# Altium footprint library MISC.PcbLib: 8 footprints
Each footprint in its own frame and in the unit in brackets; x right, y up, seen from the top. Pads: shape width x height; smd on the part's side, far side on the other; paste and mask are expansions set on the pad; w line width, h text height; cw(c..) or ccw(c..) is an arc to the next point about the centre after c.
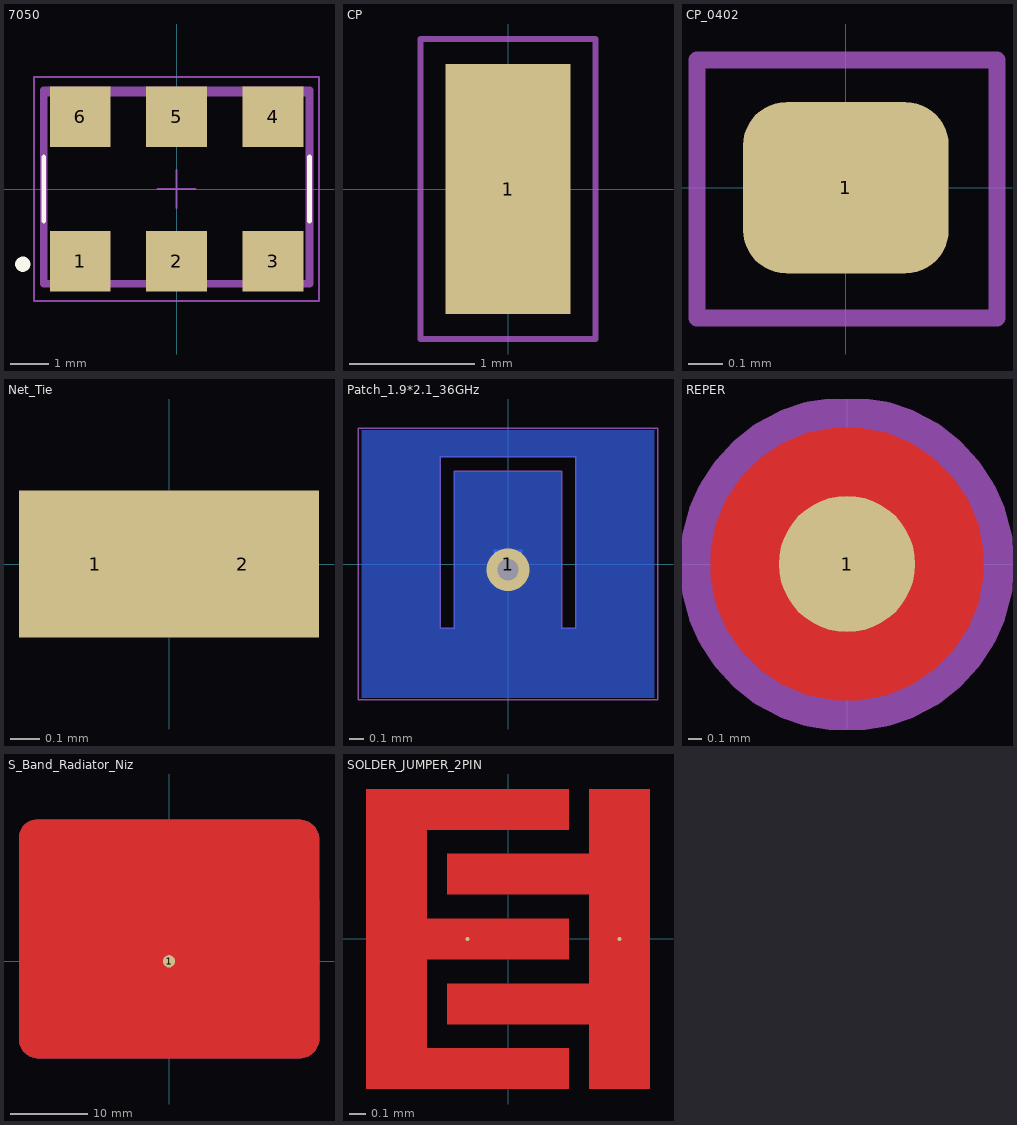
[diagram p0: the footprints below, top view; thin cyan lines are the x and y axes]

## 7050 [mm]
pads (6):
  rect 1.6x1.6 smd: 1(-2.54,-1.9) 2(0,-1.9) 3(2.54,-1.9) 4(2.54,1.9) 5(0,1.9) 6(-2.54,1.9)
Top Overlay:
  circle w0.2: c-4.05,-1.98 r0.1
  lines w0.127: -3.5,-0.84 -3.5,0.84 ; 3.5,-0.84 3.5,0.84
Top Assembly:
  circle w0.254: c-2.8,-2 r0.1
  lines w0.2: -3.5,-2.5 -3.5,2.6 3.5,2.6 3.5,-2.5 -3.5,-2.5
  text ".Designator" at -7.498,-0.5 h1.5
Top 3D Body (Mech13):
  lines w0.127: -3.5,-2.5 3.5,-2.5 3.5,2.5 -3.5,2.5 -3.5,-2.5
Top Courtyard:
  lines w0.05: -0.5,0 0,0 ; 0,-0.5 0,0 ; 0,0.5 0,0 ; 0.5,0 0,0 ; -3.75,-2.95 -3.75,2.95 3.75,2.95 3.75,-2.95 -3.75,-2.95
3D body "step_temp.STEP": height 1.7, standoff 0, extent -3.5,-2.5 3.5,2.5

## CP [mm]
pads (1):
  rect 1x2 smd: 1(0,0)
Top Courtyard:
  lines w0.05: -0.7,-1.2 0.7,-1.2 0.7,1.2 -0.7,1.2 -0.7,-1.2

## CP_0402 [mm]
pads (1):
  rrect50% 0.6x0.5 smd: 1(0,0)
Top Courtyard:
  lines w0.05: -0.435,-0.38 0.441,-0.38 0.441,0.373 -0.435,0.373 -0.435,-0.38

## Net_Tie [mm]
pads (2):
  rect 0.52x0.5 smd paste-2539.97 mask+0.102: 1(-0.25,0) 2(0.25,0)

## Patch_1.9*2.1_36GHz [mm]
height 46
pads (1):
  rect 0.2x0.2 smd far side: 1(0,0)
via 0,-0.04 diameter 0.3 hole 0.15
Bottom Layer:
  region: -1.025,-0.935 1.025,-0.935 1.025,0.935 0.475,0.935 0.475,-0.45 0.375,-0.45 0.375,0.65 -0.375,0.65 -0.375,-0.45 -0.475,-0.45 -0.475,0.75 0.475,0.75 0.475,0.935 -1.025,0.935
Bottom Assembly:
  lines w0.01: -1.05,-0.95 -1.05,0.95 1.05,0.95 1.05,-0.95 -1.05,-0.95 ; -0.475,-0.45 -0.375,-0.45 -0.375,0.65 0.375,0.65 0.375,-0.45 0.475,-0.45 0.475,0.75 -0.475,0.75 -0.475,-0.45

## REPER [mm]
pads (1):
  round 1 smd paste-0.5 mask+0.5: 1(0,0)
Top Layer:
  pour cut-out: 0,-1 -0.098,-1 -0.292,-0.962 -0.474,-0.886 -0.637,-0.777 -0.777,-0.637 -0.886,-0.474 -0.962,-0.292 -1,-0.098 -1,0.098 -0.962,0.292 -0.886,0.474 -0.777,0.637 -0.637,0.777 -0.474,0.886 -0.292,0.962 -0.098,1 0,1 0.098,1 0.292,0.962 0.474,0.886 0.637,0.777 0.777,0.637 0.886,0.474 0.962,0.292 1,0.098 1,0 1,-0.098 0.962,-0.292 0.886,-0.474 0.777,-0.637 0.637,-0.777 0.474,-0.886 0.292,-0.962 0.098,-1
Top Courtyard:
  circle w0.254: c0,0 r1.1

## S_Band_Radiator_Niz [mm]
pads (2):
  round 1.6 smd: 1(0,0)
  round 0.025 smd: 2(0.05,-6.3)
Top Layer:
  region: -1.802,0 -19.5,0 -19.5,16.1 -19.5,16.327 -19.412,16.771 -19.238,17.189 -18.987,17.566 -18.666,17.887 -18.289,18.138 -17.871,18.312 -17.427,18.4 -17.2,18.4 16.9,18.4 17.156,18.4 17.658,18.3 18.132,18.104 18.557,17.82 18.92,17.457 19.204,17.032 19.4,16.558 19.5,16.056 19.5,15.8 19.5,0 1.802,0 1.794,0.177 1.725,0.523 1.59,0.85 1.393,1.143 1.143,1.393 0.85,1.59 0.523,1.725 0.177,1.794 0,1.802 -0.177,1.794 -0.523,1.725 -0.85,1.59 -1.144,1.393 -1.393,1.143 -1.59,0.85 -1.725,0.523 -1.794,0.176
  region: -1.802,0 -19.5,0 -19.5,-10.06 -19.5,-10.31 -19.402,-10.801 -19.211,-11.263 -18.933,-11.679 -18.579,-12.033 -18.163,-12.311 -17.701,-12.502 -17.21,-12.6 -16.96,-12.6 16.96,-12.6 17.21,-12.6 17.701,-12.502 18.163,-12.311 18.579,-12.033 18.933,-11.679 19.211,-11.263 19.402,-10.801 19.5,-10.31 19.5,-10.06 19.5,0 1.802,0 1.794,-0.177 1.725,-0.523 1.589,-0.85 1.393,-1.143 1.143,-1.393 0.85,-1.589 0.523,-1.725 0.177,-1.794 0,-1.802 -0.177,-1.794 -0.523,-1.725 -0.85,-1.589 -1.143,-1.393 -1.393,-1.143 -1.589,-0.85 -1.725,-0.523 -1.794,-0.177
  pour cut-out: -1.802,0 -1.802,-0.178 -1.733,-0.526 -1.597,-0.854 -1.4,-1.149 -1.149,-1.4 -0.854,-1.597 -0.526,-1.733 -0.178,-1.802 0,-1.802 0.178,-1.802 0.526,-1.733 0.854,-1.597 1.149,-1.4 1.4,-1.149 1.597,-0.854 1.733,-0.526 1.802,-0.178 1.802,0 1.802,0.178 1.733,0.526 1.597,0.854 1.4,1.149 1.149,1.4 0.854,1.597 0.526,1.733 0.178,1.802 0,1.802 -0.178,1.802 -0.526,1.733 -0.854,1.597 -1.149,1.4 -1.4,1.149 -1.597,0.854 -1.733,0.526 -1.802,0.178
  region: -0.125,-6.375 -0.125,-6.225 -0.125,-6.21 -0.114,-6.183 -0.092,-6.161 -0.065,-6.15 -0.05,-6.15 0.15,-6.15 0.165,-6.15 0.192,-6.161 0.214,-6.183 0.225,-6.21 0.225,-6.225 0.225,-6.375 0.225,-6.39 0.214,-6.417 0.192,-6.439 0.165,-6.45 0.15,-6.45 -0.05,-6.45 -0.065,-6.45 -0.092,-6.439 -0.114,-6.417 -0.125,-6.39
Top Paste:
  region: -14.5,17.5 -14.5,13.5 -10.5,13.5 -10.5,17.5
  region: -9.5,17.5 -9.5,13.5 -5.5,13.5 -5.5,17.5
  region: -4.5,17.5 -4.5,13.5 -0.5,13.5 -0.5,17.5
  region: 0.5,17.5 0.5,13.5 4.5,13.5 4.5,17.5
  region: 10.5,17.5 10.5,13.5 14.5,13.5 14.5,17.5
  region: 5.5,17.5 5.5,13.5 9.5,13.5 9.5,17.5
  region: 14.5,12.5 10.5,12.5 10.5,8.5 14.5,8.5
  region: 14.5,7.5 10.5,7.5 10.5,3.5 14.5,3.5
  region: 14.5,-7.5 10.5,-7.5 10.5,-11.5 14.5,-11.5
  region: 14.5,-2.5 10.5,-2.5 10.5,-6.5 14.5,-6.5
  region: 14.5,2.5 10.5,2.5 10.5,-1.5 14.5,-1.5
  region: 9.5,-11.5 9.5,-7.5 5.5,-7.5 5.5,-11.5
  region: 4.5,-11.5 4.5,-7.5 0.5,-7.5 0.5,-11.5
  region: -0.5,-11.5 -0.5,-7.5 -4.5,-7.5 -4.5,-11.5
  region: -5.5,-11.5 -5.5,-7.5 -9.5,-7.5 -9.5,-11.5
  region: -10.5,-11.5 -10.5,-7.5 -14.5,-7.5 -14.5,-11.5
  region: -10.5,-1.5 -10.5,2.5 -14.5,2.5 -14.5,-1.5
  region: -10.5,-6.5 -10.5,-2.5 -14.5,-2.5 -14.5,-6.5
  region: -10.5,8.5 -10.5,12.5 -14.5,12.5 -14.5,8.5
  region: -10.5,3.5 -10.5,7.5 -14.5,7.5 -14.5,3.5
  rectangle: -4.5,3.5 -0.5,7.5
  rectangle: 0.5,3.5 4.5,7.5
  rectangle: -4.5,8.5 -0.5,12.5
  rectangle: 0.5,8.5 4.5,12.5
  region: 5.5,7.5 5.5,3.5 9.5,3.5 9.5,7.5
  region: -5.5,3.5 -5.5,7.5 -9.5,7.5 -9.5,3.5
  region: -5.5,8.5 -5.5,12.5 -9.5,12.5 -9.5,8.5
  region: 5.5,12.5 5.5,8.5 9.5,8.5 9.5,12.5
  region: 9.5,2.5 5.5,2.5 5.5,-1.5 9.5,-1.5
  region: -5.5,2.5 -9.5,2.5 -9.5,-1.5 -5.5,-1.5
  region: -5.5,-2.5 -9.5,-2.5 -9.5,-6.5 -5.5,-6.5
  region: -4.5,-2.5 -4.5,-6.5 -0.5,-6.5 -0.5,-2.5
  region: 0.5,-2.5 0.5,-6.5 4.5,-6.5 4.5,-2.5
  region: 5.5,-2.5 5.5,-6.5 9.5,-6.5 9.5,-2.5
Top Solder:
  region: 19.25,-0.25 2.035,-0.25 2.035,0.252 19.25,0.252
  region: -19.25,-0.25 -2.035,-0.25 -2.035,0.252 -19.25,0.252
Top 3D Body (Mech13):
  region: -19.5,15.86 -19.5,16.11 -19.402,16.601 -19.211,17.063 -18.933,17.479 -18.579,17.833 -18.163,18.111 -17.701,18.302 -17.21,18.4 -16.96,18.4 16.96,18.4 17.21,18.4 17.701,18.302 18.163,18.111 18.579,17.833 18.933,17.479 19.211,17.063 19.402,16.601 19.5,16.11 19.5,15.86 19.5,-10.06 19.5,-10.31 19.402,-10.801 19.211,-11.263 18.933,-11.679 18.579,-12.033 18.163,-12.311 17.701,-12.502 17.21,-12.6 16.96,-12.6 -16.96,-12.6 -17.21,-12.6 -17.701,-12.502 -18.163,-12.311 -18.579,-12.033 -18.933,-11.679 -19.211,-11.263 -19.402,-10.801 -19.5,-10.31 -19.5,-10.06
3D body "1a1.stp": height 6.42, standoff 0, extent -19.5,-12.667 19.5,18.333

## SOLDER_JUMPER_2PIN [mil]
pads (2):
  round 1 smd paste-99999 mask+0: 1(-9.84,0) 2(27.07,0)
Top Layer:
  region: 19.68,20.67 19.68,10.83 -14.76,10.83 -14.76,20.67
  region: 19.68,-10.83 19.68,-20.67 -14.76,-20.67 -14.76,-10.83
  region: 19.68,-36.42 19.68,36.42 34.45,36.42 34.45,-36.42
  region: -19.68,-36.42 14.76,-36.42 14.76,-26.57 -19.68,-26.57 -19.68,-4.92 14.76,-4.92 14.76,4.92 -19.68,4.92 -19.68,26.57 14.76,26.57 14.76,36.42 -19.68,36.42 -34.45,36.42 -34.45,-36.42
Top Solder:
  rectangle: -33.46,-35.43 33.46,35.43